# EAGLE library part DB15 (library pimoroni-connectors)
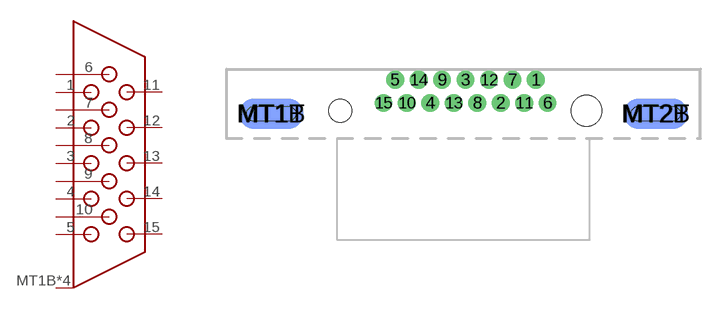
[diagram p20: symbol with the pads of DB15; footprint DB15]

Designator prefix J

## DB15  [DB15]
1  1
2  2
3  3
4  4
5  5
6  6
7  7
8  8
9  9
10  10
11  11
12  12
13  13
14  14
15  15
MT1B  MT
MT1T  MT
MT2B  MT
MT2T  MT

## Footprint DB15 (pad centres in mm)
drill 0.65: 1 4.703,3.8; 2 2.417,2.3; 3 0.131,3.8; 4 -2.155,2.3; 5 -4.441,3.8; 6 5.465,2.3; 7 3.179,3.8; 8 0.893,2.3; 9 -1.393,3.8; 10 -3.679,2.3; 11 3.941,2.3; 12 1.655,3.8; 13 -0.631,2.3; 14 -2.917,3.8; 15 -5.203,2.3
smd 4.2 x 2 bottom: MT1B -12.5,1.6; MT2B 12.5,1.6
smd 4.2 x 2: MT1T -12.5,1.6; MT2T 12.5,1.6
hole 1.5 at -8,1.8
hole 2 at 8,1.8